# Altium integrated library Analog Devices Data Converters Analog-to-Digital Converters.IntLib: 2400 symbols (part 137 of 338)
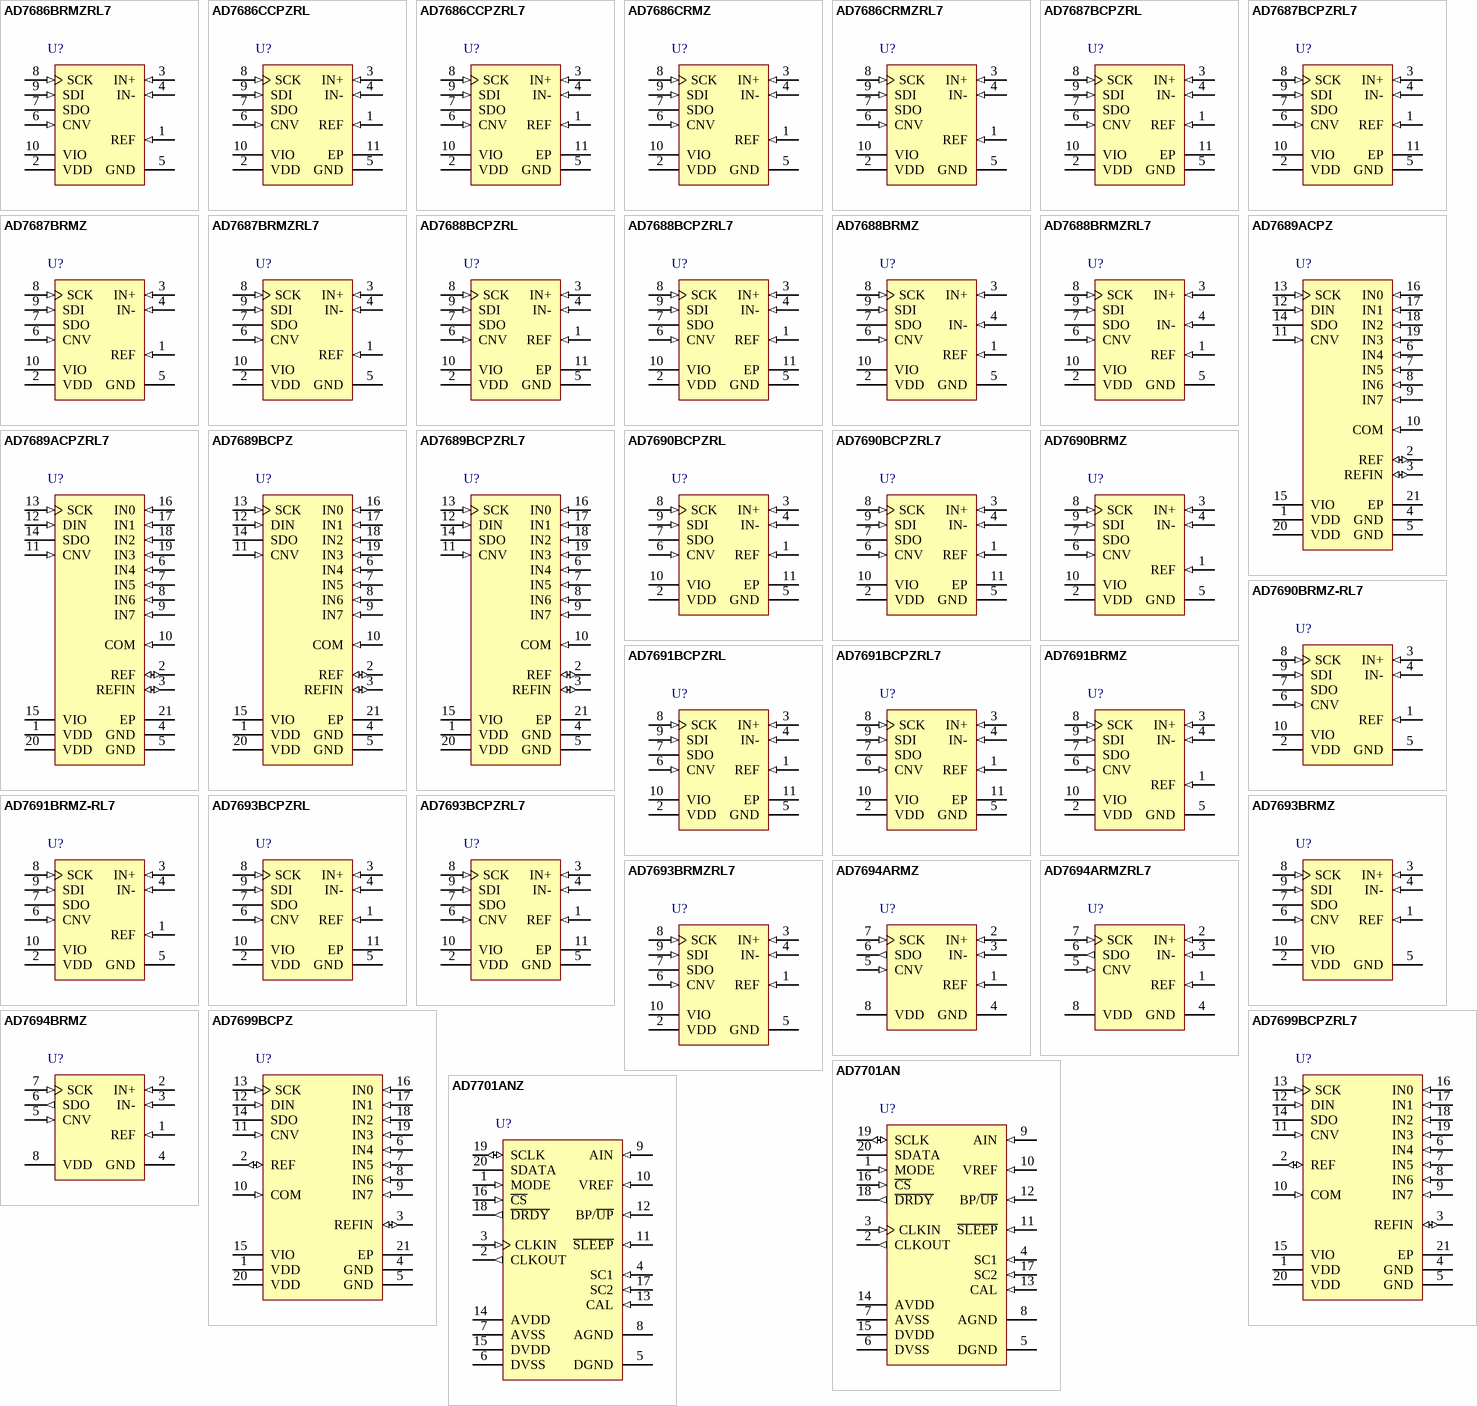
[diagram p234: symbols AD7686BRMZRL7 to AD7701ANZ]

## AD7693BCPZRL7
designator U?
Single 16-Bit PulSAR Analog-to-Digital Converter with Serial, SPI Interface, 500KSPS, -40 to +85 degC, CP-10-9, Pb-Free, Reel; Part Number: AD7693; Manufacturer: Analog Devices; Resolution (Bits): 16; Channels: 1; Throughput Rate (SPS): 500K; Interface: Ser, SPI; DatasheetVersion: Rev.A; PackageVersion: 02-27-2012-B; PackageReference: CP-10-9; PackageDescription: 10-Lead Lead Frame Chip Scale Package [LFCSP_WD] 3 x 3 mm Body, Very Very Thin, Dual Lead; RoHS: Y; Packing: Reel; Mounting Technology: Surface Mount; ComponentLink1Description: Manufacturer URL; ComponentLink1URL: http://www.analog.com/en/index.html; ComponentLink2Description: Datasheet; ComponentLink2URL: http://www.analog.com/static/imported-files/data_sheets/AD7693.pdf; ComponentLink3Description: Package Specification; ComponentLink3URL: http://www.analog.com/static/imported-files/packages/CP_10_9.pdf; ComponentLink4Description: Product URL; ComponentLink4URL: http://www.analog.com/en/analog-to-digital-converters/ad-converters/ad7693/products/product.html
footprint CP-10-9_N (SON, 10-Leads, Body 3x3mm, Pitch 0.5mm, Thermal Pad 2.35x1.6mm, IPC Medium Density)
footprint CP-10-9_L (SON, 10-Leads, Body 3x3mm, Pitch 0.5mm, Thermal Pad 2.35x1.6mm, IPC High Density)
footprint CP-10-9_M (SON, 10-Leads, Body 3x3mm, Pitch 0.5mm, Thermal Pad 2.35x1.6mm, IPC Low Density)
pins: 1 REF (in) "Reference Input Voltage. The REF range is from 0.5 V to VDD. It is referred to the GND pin. This pin should be decoupled closely to the pin with a 10 uF capacitor.", 2 VDD (power) "Power Supply.", 3 IN+ (in) "Differential Positive Analog Input.", 4 IN- (in) "Differential Negative Analog Input.", 5 GND (power) "Power Supply Ground.", 6 CNV (in) "Convert Input. This input has multiple functions. On its leading edge, it initiates the conversions and selects the interface mode of the part: chain or C\S\ mode. In chain mode, the data should be read when CNV is high. In (See Datasheet)", 7 SDO (hiz) "Serial Data Output. The conversion result is output on this pin. It is synchronized to SCK.", 8 SCK (in) "Serial Data Clock Input. When the part is selected, the conversion result is shifted out by this clock.", 9 SDI (in) "Serial Data Input. This input provides multiple features. It selects the interface mode of the ADC as follows: Chain mode is selected if SDI is low during the CNV rising edge. In this mode, SDI is used as a data input to (See Datasheet)", 10 VIO (power) "Input/Output Interface Digital Power. Nominally at the same supply as the host interface (1.8 V, 2.5 V, 3 V, or 5 V).", 11 EP (power) "Exposed Pad. The exposed pad is connected to GND. This connection is not required to meet the electrical performances. The exposed pad is only on the 10-Lead QFN (LFC\S\P)."

## AD7693BRMZ
designator U?
Single 16-Bit PulSAR Analog-to-Digital Converter with Serial, SPI Interface, 500KSPS, -40 to +85 degC, RM-10, Pb-Free, Tube; Part Number: AD7693; Manufacturer: Analog Devices; Resolution (Bits): 16; Channels: 1; Throughput Rate (SPS): 500K; Interface: Ser, SPI; DatasheetVersion: Rev.A; PackageVersion: May-2005; PackageReference: RM-10; PackageDescription: 10-Lead Mini Small Outline Package [MSOP]; RoHS: Y; Packing: Tube; Mounting Technology: Surface Mount; ComponentLink1Description: Manufacturer URL; ComponentLink1URL: http://www.analog.com/en/index.html; ComponentLink2Description: Datasheet; ComponentLink2URL: http://www.analog.com/static/imported-files/data_sheets/AD7693.pdf; ComponentLink3Description: Package Specification; ComponentLink3URL: http://www.analog.com/static/imported-files/packages/PKG_PDF/MSOP%28RM%29/RM_10.pdf; ComponentLink4Description: Product URL; ComponentLink4URL: http://www.analog.com/en/analog-to-digital-converters/ad-converters/ad7693/products/product.html
footprint RM-10_N (TSSOP, 10-Leads, Body 3x3mm, Pitch 0.5mm, IPC Medium Density)
footprint RM-10_L (TSSOP, 10-Leads, Body 3x3mm, Pitch 0.5mm, IPC High Density)
footprint RM-10_M (TSSOP, 10-Leads, Body 3x3mm, Pitch 0.5mm, IPC Low Density)
pins: 1 REF (in) "Reference Input Voltage. The REF range is from 0.5 V to VDD. It is referred to the GND pin. This pin should be decoupled closely to the pin with a 10 uF capacitor.", 2 VDD (power) "Power Supply.", 3 IN+ (in) "Differential Positive Analog Input.", 4 IN- (in) "Differential Negative Analog Input.", 5 GND (power) "Power Supply Ground.", 6 CNV (in) "Convert Input. This input has multiple functions. On its leading edge, it initiates the conversions and selects the interface mode of the part: chain or C\S\ mode. In chain mode, the data should be read when CNV is high. In (See Datasheet)", 7 SDO (hiz) "Serial Data Output. The conversion result is output on this pin. It is synchronized to SCK.", 8 SCK (in) "Serial Data Clock Input. When the part is selected, the conversion result is shifted out by this clock.", 9 SDI (in) "Serial Data Input. This input provides multiple features. It selects the interface mode of the ADC as follows: Chain mode is selected if SDI is low during the CNV rising edge. In this mode, SDI is used as a data input to (See Datasheet)", 10 VIO (power) "Input/Output Interface Digital Power. Nominally at the same supply as the host interface (1.8 V, 2.5 V, 3 V, or 5 V)."

## AD7693BRMZRL7
designator U?
Single 16-Bit PulSAR Analog-to-Digital Converter with Serial, SPI Interface, 500KSPS, -40 to +85 degC, RM-10, Pb-Free, Reel; Part Number: AD7693; Manufacturer: Analog Devices; Resolution (Bits): 16; Channels: 1; Throughput Rate (SPS): 500K; Interface: Ser, SPI; DatasheetVersion: Rev.A; PackageVersion: May-2005; PackageReference: RM-10; PackageDescription: 10-Lead Mini Small Outline Package [MSOP]; RoHS: Y; Packing: Reel; Mounting Technology: Surface Mount; ComponentLink1Description: Manufacturer URL; ComponentLink1URL: http://www.analog.com/en/index.html; ComponentLink2Description: Datasheet; ComponentLink2URL: http://www.analog.com/static/imported-files/data_sheets/AD7693.pdf; ComponentLink3Description: Package Specification; ComponentLink3URL: http://www.analog.com/static/imported-files/packages/PKG_PDF/MSOP%28RM%29/RM_10.pdf; ComponentLink4Description: Product URL; ComponentLink4URL: http://www.analog.com/en/analog-to-digital-converters/ad-converters/ad7693/products/product.html
footprint RM-10_N (TSSOP, 10-Leads, Body 3x3mm, Pitch 0.5mm, IPC Medium Density)
footprint RM-10_L (TSSOP, 10-Leads, Body 3x3mm, Pitch 0.5mm, IPC High Density)
footprint RM-10_M (TSSOP, 10-Leads, Body 3x3mm, Pitch 0.5mm, IPC Low Density)
pins: 1 REF (in) "Reference Input Voltage. The REF range is from 0.5 V to VDD. It is referred to the GND pin. This pin should be decoupled closely to the pin with a 10 uF capacitor.", 2 VDD (power) "Power Supply.", 3 IN+ (in) "Differential Positive Analog Input.", 4 IN- (in) "Differential Negative Analog Input.", 5 GND (power) "Power Supply Ground.", 6 CNV (in) "Convert Input. This input has multiple functions. On its leading edge, it initiates the conversions and selects the interface mode of the part: chain or C\S\ mode. In chain mode, the data should be read when CNV is high. In (See Datasheet)", 7 SDO (hiz) "Serial Data Output. The conversion result is output on this pin. It is synchronized to SCK.", 8 SCK (in) "Serial Data Clock Input. When the part is selected, the conversion result is shifted out by this clock.", 9 SDI (in) "Serial Data Input. This input provides multiple features. It selects the interface mode of the ADC as follows: Chain mode is selected if SDI is low during the CNV rising edge. In this mode, SDI is used as a data input to (See Datasheet)", 10 VIO (power) "Input/Output Interface Digital Power. Nominally at the same supply as the host interface (1.8 V, 2.5 V, 3 V, or 5 V)."

## AD7694ARMZ
designator U?
Single 16-Bit PulSAR Analog-to-Digital Converter with Serial, SPI Interface, 250KSPS, -40 to +85 degC, RM-8, Pb-Free, Tube; Part Number: AD7694; Manufacturer: Analog Devices; Resolution (Bits): 16; Channels: 1; Throughput Rate (SPS): 250K; Interface: Ser, SPI; DatasheetVersion: Rev.A; PackageVersion: Aug-2005; PackageReference: RM-8; PackageDescription: 8-Lead Mini Small Outline Package [MSOP]; RoHS: Y; Packing: Tube; Mounting Technology: Surface Mount; Code_JEDEC: MO-187-AA; ComponentLink1Description: Manufacturer URL; ComponentLink1URL: http://www.analog.com/en/index.html; ComponentLink2Description: Datasheet; ComponentLink2URL: http://www.analog.com/static/imported-files/data_sheets/AD7694.pdf; ComponentLink3Description: Package Specification; ComponentLink3URL: http://www.analog.com/static/imported-files/packages/PKG_PDF/MSOP%28RM%29/RM_8.pdf; ComponentLink4Description: Product URL; ComponentLink4URL: http://www.analog.com/en/analog-to-digital-converters/ad-converters/ad7694/products/product.html
footprint RM-8_N (TSOP, 8-Leads, Body 3x3mm, Pitch 0.65mm, IPC Medium Density)
footprint RM-8_L (TSOP, 8-Leads, Body 3x3mm, Pitch 0.65mm, IPC High Density)
footprint RM-8_M (TSOP, 8-Leads, Body 3x3mm, Pitch 0.65mm, IPC Low Density)
pins: 1 REF (in) "Reference Input Voltage. The REF range is from 1 V to VDD. It is referred to the GND pin. This pin should be decoupled closely to the pin with a ceramic capacitor of a few uF.", 2 IN+ (in) "Analog Input. It is referred to in IN-. The voltage range, that is, the difference between IN+ and IN-, which is 0 V to VREF.", 3 IN- (in) "Analog Input Ground Sense. To be connected to the analog ground plane or to a remote sense ground.", 4 GND (power) "Power Supply Ground.", 5 CNV (in) "Convert Input. On its leading edge, it initiates the conversions. It enables the SDO pin when low.", 6 SDO (out) "Serial Data Output. The conversion result is output on this pin. It is synchronized to SCK.", 7 SCK (in) "Serial Data Clock Input. When CNV is low, the conversion result is shifted out by this clock.", 8 VDD (power) "Power Supply."

## AD7694ARMZRL7
designator U?
Single 16-Bit PulSAR Analog-to-Digital Converter with Serial, SPI Interface, 250KSPS, -40 to +85 degC, RM-8, Pb-Free, Reel; Part Number: AD7694; Manufacturer: Analog Devices; Resolution (Bits): 16; Channels: 1; Throughput Rate (SPS): 250K; Interface: Ser, SPI; DatasheetVersion: Rev.A; PackageVersion: Aug-2005; PackageReference: RM-8; PackageDescription: 8-Lead Mini Small Outline Package [MSOP]; RoHS: Y; Packing: Reel; Mounting Technology: Surface Mount; Code_JEDEC: MO-187-AA; ComponentLink1Description: Manufacturer URL; ComponentLink1URL: http://www.analog.com/en/index.html; ComponentLink2Description: Datasheet; ComponentLink2URL: http://www.analog.com/static/imported-files/data_sheets/AD7694.pdf; ComponentLink3Description: Package Specification; ComponentLink3URL: http://www.analog.com/static/imported-files/packages/PKG_PDF/MSOP%28RM%29/RM_8.pdf; ComponentLink4Description: Product URL; ComponentLink4URL: http://www.analog.com/en/analog-to-digital-converters/ad-converters/ad7694/products/product.html
footprint RM-8_N (TSOP, 8-Leads, Body 3x3mm, Pitch 0.65mm, IPC Medium Density)
footprint RM-8_L (TSOP, 8-Leads, Body 3x3mm, Pitch 0.65mm, IPC High Density)
footprint RM-8_M (TSOP, 8-Leads, Body 3x3mm, Pitch 0.65mm, IPC Low Density)
pins: 1 REF (in) "Reference Input Voltage. The REF range is from 1 V to VDD. It is referred to the GND pin. This pin should be decoupled closely to the pin with a ceramic capacitor of a few uF.", 2 IN+ (in) "Analog Input. It is referred to in IN-. The voltage range, that is, the difference between IN+ and IN-, which is 0 V to VREF.", 3 IN- (in) "Analog Input Ground Sense. To be connected to the analog ground plane or to a remote sense ground.", 4 GND (power) "Power Supply Ground.", 5 CNV (in) "Convert Input. On its leading edge, it initiates the conversions. It enables the SDO pin when low.", 6 SDO (out) "Serial Data Output. The conversion result is output on this pin. It is synchronized to SCK.", 7 SCK (in) "Serial Data Clock Input. When CNV is low, the conversion result is shifted out by this clock.", 8 VDD (power) "Power Supply."

## AD7694BRMZ
designator U?
Single 16-Bit PulSAR Analog-to-Digital Converter with Serial, SPI Interface, 250KSPS, -40 to +85 degC, RM-8, Pb-Free, Tube; Part Number: AD7694; Manufacturer: Analog Devices; Resolution (Bits): 16; Channels: 1; Throughput Rate (SPS): 250K; Interface: Ser, SPI; DatasheetVersion: Rev.A; PackageVersion: Aug-2005; PackageReference: RM-8; PackageDescription: 8-Lead Mini Small Outline Package [MSOP]; RoHS: Y; Packing: Tube; Mounting Technology: Surface Mount; Code_JEDEC: MO-187-AA; ComponentLink1Description: Manufacturer URL; ComponentLink1URL: http://www.analog.com/en/index.html; ComponentLink2Description: Datasheet; ComponentLink2URL: http://www.analog.com/static/imported-files/data_sheets/AD7694.pdf; ComponentLink3Description: Package Specification; ComponentLink3URL: http://www.analog.com/static/imported-files/packages/PKG_PDF/MSOP%28RM%29/RM_8.pdf; ComponentLink4Description: Product URL; ComponentLink4URL: http://www.analog.com/en/analog-to-digital-converters/ad-converters/ad7694/products/product.html
footprint RM-8_N (TSOP, 8-Leads, Body 3x3mm, Pitch 0.65mm, IPC Medium Density)
footprint RM-8_L (TSOP, 8-Leads, Body 3x3mm, Pitch 0.65mm, IPC High Density)
footprint RM-8_M (TSOP, 8-Leads, Body 3x3mm, Pitch 0.65mm, IPC Low Density)
pins: 1 REF (in) "Reference Input Voltage. The REF range is from 1 V to VDD. It is referred to the GND pin. This pin should be decoupled closely to the pin with a ceramic capacitor of a few uF.", 2 IN+ (in) "Analog Input. It is referred to in IN-. The voltage range, that is, the difference between IN+ and IN-, which is 0 V to VREF.", 3 IN- (in) "Analog Input Ground Sense. To be connected to the analog ground plane or to a remote sense ground.", 4 GND (power) "Power Supply Ground.", 5 CNV (in) "Convert Input. On its leading edge, it initiates the conversions. It enables the SDO pin when low.", 6 SDO (out) "Serial Data Output. The conversion result is output on this pin. It is synchronized to SCK.", 7 SCK (in) "Serial Data Clock Input. When CNV is low, the conversion result is shifted out by this clock.", 8 VDD (power) "Power Supply."

## AD7699BCPZ
designator U?
Octal 16-Bit PulSAR Analog-to-Digital Converter with Serial, SPI Interface, 500KSPS, -40 to +85 degC, CP-20-4, Pb-Free, Tray; Part Number: AD7699; Manufacturer: Analog Devices; Resolution (Bits): 16; Channels: 8; Throughput Rate (SPS): 500K; Interface: Ser, SPI; DatasheetVersion: Rev.B; PackageVersion: 012508-B; PackageReference: CP-20-4; PackageDescription: 20-Lead Lead Frame Chip Scale Package [LFCSP_VQ] 4 x 4 mm Body, Very Thin Quad; RoHS: Y; Packing: Tray; Mounting Technology: Surface Mount; Code_JEDEC: MO-220-VGGD-1; ComponentLink1Description: Manufacturer URL; ComponentLink1URL: http://www.analog.com/en/index.html; ComponentLink2Description: Datasheet; ComponentLink2URL: http://www.analog.com/static/imported-files/data_sheets/AD7699.pdf; ComponentLink3Description: Package Specification; ComponentLink3URL: http://www.analog.com/static/imported-files/packages/PKG_PDF/LFCSP(CP)/CP_20_4.pdf; ComponentLink4Description: Product URL; ComponentLink4URL: http://www.analog.com/en/analog-to-digital-converters/ad-converters/ad7699/products/product.html
footprint CP-20-4_N (QFN, 20-Leads, Body 4x4mm, Pitch 0.5mm, Thermal Pad 2.5x2.5mm, IPC Medium Density)
footprint CP-20-4_L (QFN, 20-Leads, Body 4x4mm, Pitch 0.5mm, Thermal Pad 2.5x2.5mm, IPC High Density)
footprint CP-20-4_M (QFN, 20-Leads, Body 4x4mm, Pitch 0.5mm, Thermal Pad 2.5x2.5mm, IPC Low Density)
pins: 1 VDD (power) "Power Supply. Nominally 4.5 to 5.5 V and should be decoupled with 10 uF and 100 nF capacitors.", 2 REF (io) "Reference Input/Output. See the Voltage Reference Output/Input section. When the internal reference is enabled, this pin produces 4.096 V. When the internal reference is disabled and the buffer is enabled, REF produces a (See Datasheet)", 3 REFIN (io) "Internal Reference Output/Reference Buffer Input. See the Voltage Reference Output/Input section. When using the internal reference, the internal unbuffered reference voltage is present and needs decoupling with a 0.1 uF (See Datasheet)", 4 GND (power) "Power Supply Ground.", 5 GND (power) "Power Supply Ground.", 6 IN4 (in) "Analog Input Channel 4.", 7 IN5 (in) "Analog Input Channel 5.", 8 IN6 (in) "Analog Input Channel 6.", 9 IN7 (in) "Analog Input Channel 7.", 10 COM (in) "Common Channel Input. All input channels, IN[7:0], can be referenced to a common-mode point of 0 V or VREF/2 V.", 11 CNV (in) "Conversion Input. On the rising edge, CNV initiates the conversion. During conversion, if CNV is held high, the busy indictor is enabled.", 12 DIN (in) "Data Input. This input is used for writing to the 14-bit configuration register. The configuration register can be written to during and after conversion.", 13 SCK (in) "Serial Data Clock Input. This input is used to clock out the data on SDO and clock in data on DIN in an MSB first fashion.", 14 SDO (hiz) "Serial Data Output. The conversion result is output on this pin and synchronized to SCK. In unipolar modes, conversion results are straight binary; in bipolar modes, conversion results are twos complement.", 15 VIO (power) "Input/Output Interface Digital Power. Nominally at the same supply as the host interface (1.8 V, 2.5 V, 3 V, or 5 V).", 16 IN0 (in) "Analog Input Channel 0", 17 IN1 (in) "Analog Input Channel 1", 18 IN2 (in) "Analog Input Channel 2", 19 IN3 (in) "Analog Input Channel 3", 20 VDD (power) "Power Supply. Nominally 4.5 to 5.5 V and should be decoupled with 10 uF and 100 nF capacitors.", 21 EP (power) "The exposed paddle is not connected internally. For increased reliability of the solder joints, it is recommended that the pad be soldered to the GND plane."

## AD7699BCPZRL7
designator U?
Octal 16-Bit PulSAR Analog-to-Digital Converter with Serial, SPI Interface, 500KSPS, -40 to +85 degC, CP-20-4, Pb-Free, Reel; Part Number: AD7699; Manufacturer: Analog Devices; Resolution (Bits): 16; Channels: 8; Throughput Rate (SPS): 500K; Interface: Ser, SPI; DatasheetVersion: Rev.B; PackageVersion: 012508-B; PackageReference: CP-20-4; PackageDescription: 20-Lead Lead Frame Chip Scale Package [LFCSP_VQ] 4 x 4 mm Body, Very Thin Quad; RoHS: Y; Packing: Reel; Mounting Technology: Surface Mount; Code_JEDEC: MO-220-VGGD-1; ComponentLink1Description: Manufacturer URL; ComponentLink1URL: http://www.analog.com/en/index.html; ComponentLink2Description: Datasheet; ComponentLink2URL: http://www.analog.com/static/imported-files/data_sheets/AD7699.pdf; ComponentLink3Description: Package Specification; ComponentLink3URL: http://www.analog.com/static/imported-files/packages/PKG_PDF/LFCSP(CP)/CP_20_4.pdf; ComponentLink4Description: Product URL; ComponentLink4URL: http://www.analog.com/en/analog-to-digital-converters/ad-converters/ad7699/products/product.html
footprint CP-20-4_N (QFN, 20-Leads, Body 4x4mm, Pitch 0.5mm, Thermal Pad 2.5x2.5mm, IPC Medium Density)
footprint CP-20-4_L (QFN, 20-Leads, Body 4x4mm, Pitch 0.5mm, Thermal Pad 2.5x2.5mm, IPC High Density)
footprint CP-20-4_M (QFN, 20-Leads, Body 4x4mm, Pitch 0.5mm, Thermal Pad 2.5x2.5mm, IPC Low Density)
pins: 1 VDD (power) "Power Supply. Nominally 4.5 to 5.5 V and should be decoupled with 10 uF and 100 nF capacitors.", 2 REF (io) "Reference Input/Output. See the Voltage Reference Output/Input section. When the internal reference is enabled, this pin produces 4.096 V. When the internal reference is disabled and the buffer is enabled, REF produces a (See Datasheet)", 3 REFIN (io) "Internal Reference Output/Reference Buffer Input. See the Voltage Reference Output/Input section. When using the internal reference, the internal unbuffered reference voltage is present and needs decoupling with a 0.1 uF (See Datasheet)", 4 GND (power) "Power Supply Ground.", 5 GND (power) "Power Supply Ground.", 6 IN4 (in) "Analog Input Channel 4.", 7 IN5 (in) "Analog Input Channel 5.", 8 IN6 (in) "Analog Input Channel 6.", 9 IN7 (in) "Analog Input Channel 7.", 10 COM (in) "Common Channel Input. All input channels, IN[7:0], can be referenced to a common-mode point of 0 V or VREF/2 V.", 11 CNV (in) "Conversion Input. On the rising edge, CNV initiates the conversion. During conversion, if CNV is held high, the busy indictor is enabled.", 12 DIN (in) "Data Input. This input is used for writing to the 14-bit configuration register. The configuration register can be written to during and after conversion.", 13 SCK (in) "Serial Data Clock Input. This input is used to clock out the data on SDO and clock in data on DIN in an MSB first fashion.", 14 SDO (hiz) "Serial Data Output. The conversion result is output on this pin and synchronized to SCK. In unipolar modes, conversion results are straight binary; in bipolar modes, conversion results are twos complement.", 15 VIO (power) "Input/Output Interface Digital Power. Nominally at the same supply as the host interface (1.8 V, 2.5 V, 3 V, or 5 V).", 16 IN0 (in) "Analog Input Channel 0", 17 IN1 (in) "Analog Input Channel 1", 18 IN2 (in) "Analog Input Channel 2", 19 IN3 (in) "Analog Input Channel 3", 20 VDD (power) "Power Supply. Nominally 4.5 to 5.5 V and should be decoupled with 10 uF and 100 nF capacitors.", 21 EP (power) "The exposed paddle is not connected internally. For increased reliability of the solder joints, it is recommended that the pad be soldered to the GND plane."

## AD7701AN
designator U?
Single 16-Bit Analog-to-Digital Converter with Serial Interface, LC2MOS, 4KSPS, -40 to +85 degC, N-20, Tube; Part Number: AD7701; Manufacturer: Analog Devices; Resolution (Bits): 16; Channels: 1; Throughput Rate (SPS): 4K; Interface: Ser; DatasheetVersion: Rev.E; PackageVersion: 070706-A; PackageReference: N-20; PackageDescription: 20-Lead Plastic Dual In-Line Package [PDIP] Narrow Body; RoHS: N; Packing: Tube; Mounting Technology: Through-hole; Code_JEDEC: MS-001; ComponentLink1Description: Manufacturer URL; ComponentLink1URL: http://www.analog.com/en/index.html; ComponentLink2Description: Datasheet; ComponentLink2URL: http://www.analog.com/static/imported-files/data_sheets/AD7701.pdf; ComponentLink3Description: Package Specification; ComponentLink3URL: http://www.analog.com/static/imported-files/packages/50601349676519N_20.pdf; ComponentLink4Description: Product URL; ComponentLink4URL: http://www.analog.com/en/analog-to-digital-converters/ad-converters/ad7701/products/product.html
footprint N-20 (DIP, 20-Leads, Row Spacing 7.62mm, Pitch 2.54mm, Body 25.9x6.6mm)
pins: 1 MODE (in) "Selects the Serial Interface Mode. If MODE is tied to -5 V, the AD7701 will operate in the Asynchronous Communications (AC) mode. The SCLK pin is configured as an input, and data is transmitted in two bytes, each with one (See Datasheet)", 2 CLKOUT (out) "Clock Output to Generate an Internal Master Clock by Connecting a Crystal between CLKOUT and CLKIN. If an external clock is used, CLKOUT is not connected.", 3 CLKIN (in) "Clock Input for External Clock.", 4 SC1 (in) "System Calibration Pins. The state of these pins, when CAL is taken high, determines the type of calibration performed.", 5 DGND (power) "Digital Ground. Ground reference for all digital signals.", 6 DVSS (power) "Digital Negative Supply, -5 V Nominal.", 7 AVSS (power) "Analog Negative Supply, -5 V Nominal.", 8 AGND (power) "Analog Ground. Ground reference for all analog signals.", 9 AIN (in) "Analog Input.", 10 VREF (in) "Voltage Reference Input, 2.5 V Nominal. This determines the value of positive full scale in the Unipolar mode and of both positive and negative full scale in Bipolar mode.", 11 ~{SLEEP} (in) "Sleep Mode Pin. When this pin is taken low, the AD7701 goes into a low power mode with typically 10 uW power consumption.", 12 BP/~{UP} (in) "Bipolar/Unipolar Mode Pin. When this pin is low, the AD7701 is configured for a unipolar input range going from AGND to VREF. When Pin 12 is high, the AD7701 is configured for a bipolar input range, +/-VREF.", 13 CAL (in) "Calibration Mode Pin. When CAL is taken high for more than four cycles, the AD7701 is reset and performs a calibration cycle when CAL is brought low again. The CAL pin can also be used as a strobe to synchronize the (See Datasheet)", 14 AVDD (power) "Analog Positive Supply, +5 V Nominal.", 15 DVDD (power) "Digital Positive Supply, +5 V Nominal.", 16 ~{CS} (in) "Chip Select Input. When C\S\ is brought low, the AD7701 will begin to transmit serial data in a format determined by the state of the MODE pin.", 17 SC2 (in) "System Calibration Pins. The state of these pins, when CAL is taken high, determines the type of calibration performed.", 18 ~{DRDY} (out) "Data Ready Output. D\R\D\Y\ is low when valid data is available in the output register. It goes high after transmission of a word is completed. It also goes high for four clock cycles when a new data-word is being loaded (See Datasheet)", 19 SCLK (io) "Serial Clock Input/Output. The SCLK pin is configured as an input or output, dependent on the type of serial data transmission that has been selected by the MODE pin.When configured as an output in the Synchronous Self (See Datasheet)", 20 SDATA (hiz) "Serial Data Output. The AD7701's output data is available at this pin as a 16-bit serial word. The transmission format is determined by the state of the MODE pin."

## AD7701ANZ
designator U?
Single 16-Bit Analog-to-Digital Converter with Serial Interface, LC2MOS, 4KSPS, -40 to +85 degC, N-20, Pb-Free, Tube; Part Number: AD7701; Manufacturer: Analog Devices; Resolution (Bits): 16; Channels: 1; Throughput Rate (SPS): 4K; Interface: Ser; DatasheetVersion: Rev.E; PackageVersion: 070706-A; PackageReference: N-20; PackageDescription: 20-Lead Plastic Dual In-Line Package [PDIP] Narrow Body; RoHS: Y; Packing: Tube; Mounting Technology: Through-hole; Code_JEDEC: MS-001; ComponentLink1Description: Manufacturer URL; ComponentLink1URL: http://www.analog.com/en/index.html; ComponentLink2Description: Datasheet; ComponentLink2URL: http://www.analog.com/static/imported-files/data_sheets/AD7701.pdf; ComponentLink3Description: Package Specification; ComponentLink3URL: http://www.analog.com/static/imported-files/packages/50601349676519N_20.pdf; ComponentLink4Description: Product URL; ComponentLink4URL: http://www.analog.com/en/analog-to-digital-converters/ad-converters/ad7701/products/product.html
footprint N-20 (DIP, 20-Leads, Row Spacing 7.62mm, Pitch 2.54mm, Body 25.9x6.6mm)
pins: 1 MODE (in) "Selects the Serial Interface Mode. If MODE is tied to -5 V, the AD7701 will operate in the Asynchronous Communications (AC) mode. The SCLK pin is configured as an input, and data is transmitted in two bytes, each with one (See Datasheet)", 2 CLKOUT (out) "Clock Output to Generate an Internal Master Clock by Connecting a Crystal between CLKOUT and CLKIN. If an external clock is used, CLKOUT is not connected.", 3 CLKIN (in) "Clock Input for External Clock.", 4 SC1 (in) "System Calibration Pins. The state of these pins, when CAL is taken high, determines the type of calibration performed.", 5 DGND (power) "Digital Ground. Ground reference for all digital signals.", 6 DVSS (power) "Digital Negative Supply, -5 V Nominal.", 7 AVSS (power) "Analog Negative Supply, -5 V Nominal.", 8 AGND (power) "Analog Ground. Ground reference for all analog signals.", 9 AIN (in) "Analog Input.", 10 VREF (in) "Voltage Reference Input, 2.5 V Nominal. This determines the value of positive full scale in the Unipolar mode and of both positive and negative full scale in Bipolar mode.", 11 ~{SLEEP} (in) "Sleep Mode Pin. When this pin is taken low, the AD7701 goes into a low power mode with typically 10 uW power consumption.", 12 BP/~{UP} (in) "Bipolar/Unipolar Mode Pin. When this pin is low, the AD7701 is configured for a unipolar input range going from AGND to VREF. When Pin 12 is high, the AD7701 is configured for a bipolar input range, +/-VREF.", 13 CAL (in) "Calibration Mode Pin. When CAL is taken high for more than four cycles, the AD7701 is reset and performs a calibration cycle when CAL is brought low again. The CAL pin can also be used as a strobe to synchronize the (See Datasheet)", 14 AVDD (power) "Analog Positive Supply, +5 V Nominal.", 15 DVDD (power) "Digital Positive Supply, +5 V Nominal.", 16 ~{CS} (in) "Chip Select Input. When C\S\ is brought low, the AD7701 will begin to transmit serial data in a format determined by the state of the MODE pin.", 17 SC2 (in) "System Calibration Pins. The state of these pins, when CAL is taken high, determines the type of calibration performed.", 18 ~{DRDY} (out) "Data Ready Output. D\R\D\Y\ is low when valid data is available in the output register. It goes high after transmission of a word is completed. It also goes high for four clock cycles when a new data-word is being loaded (See Datasheet)", 19 SCLK (io) "Serial Clock Input/Output. The SCLK pin is configured as an input or output, dependent on the type of serial data transmission that has been selected by the MODE pin.When configured as an output in the Synchronous Self (See Datasheet)", 20 SDATA (hiz) "Serial Data Output. The AD7701's output data is available at this pin as a 16-bit serial word. The transmission format is determined by the state of the MODE pin."

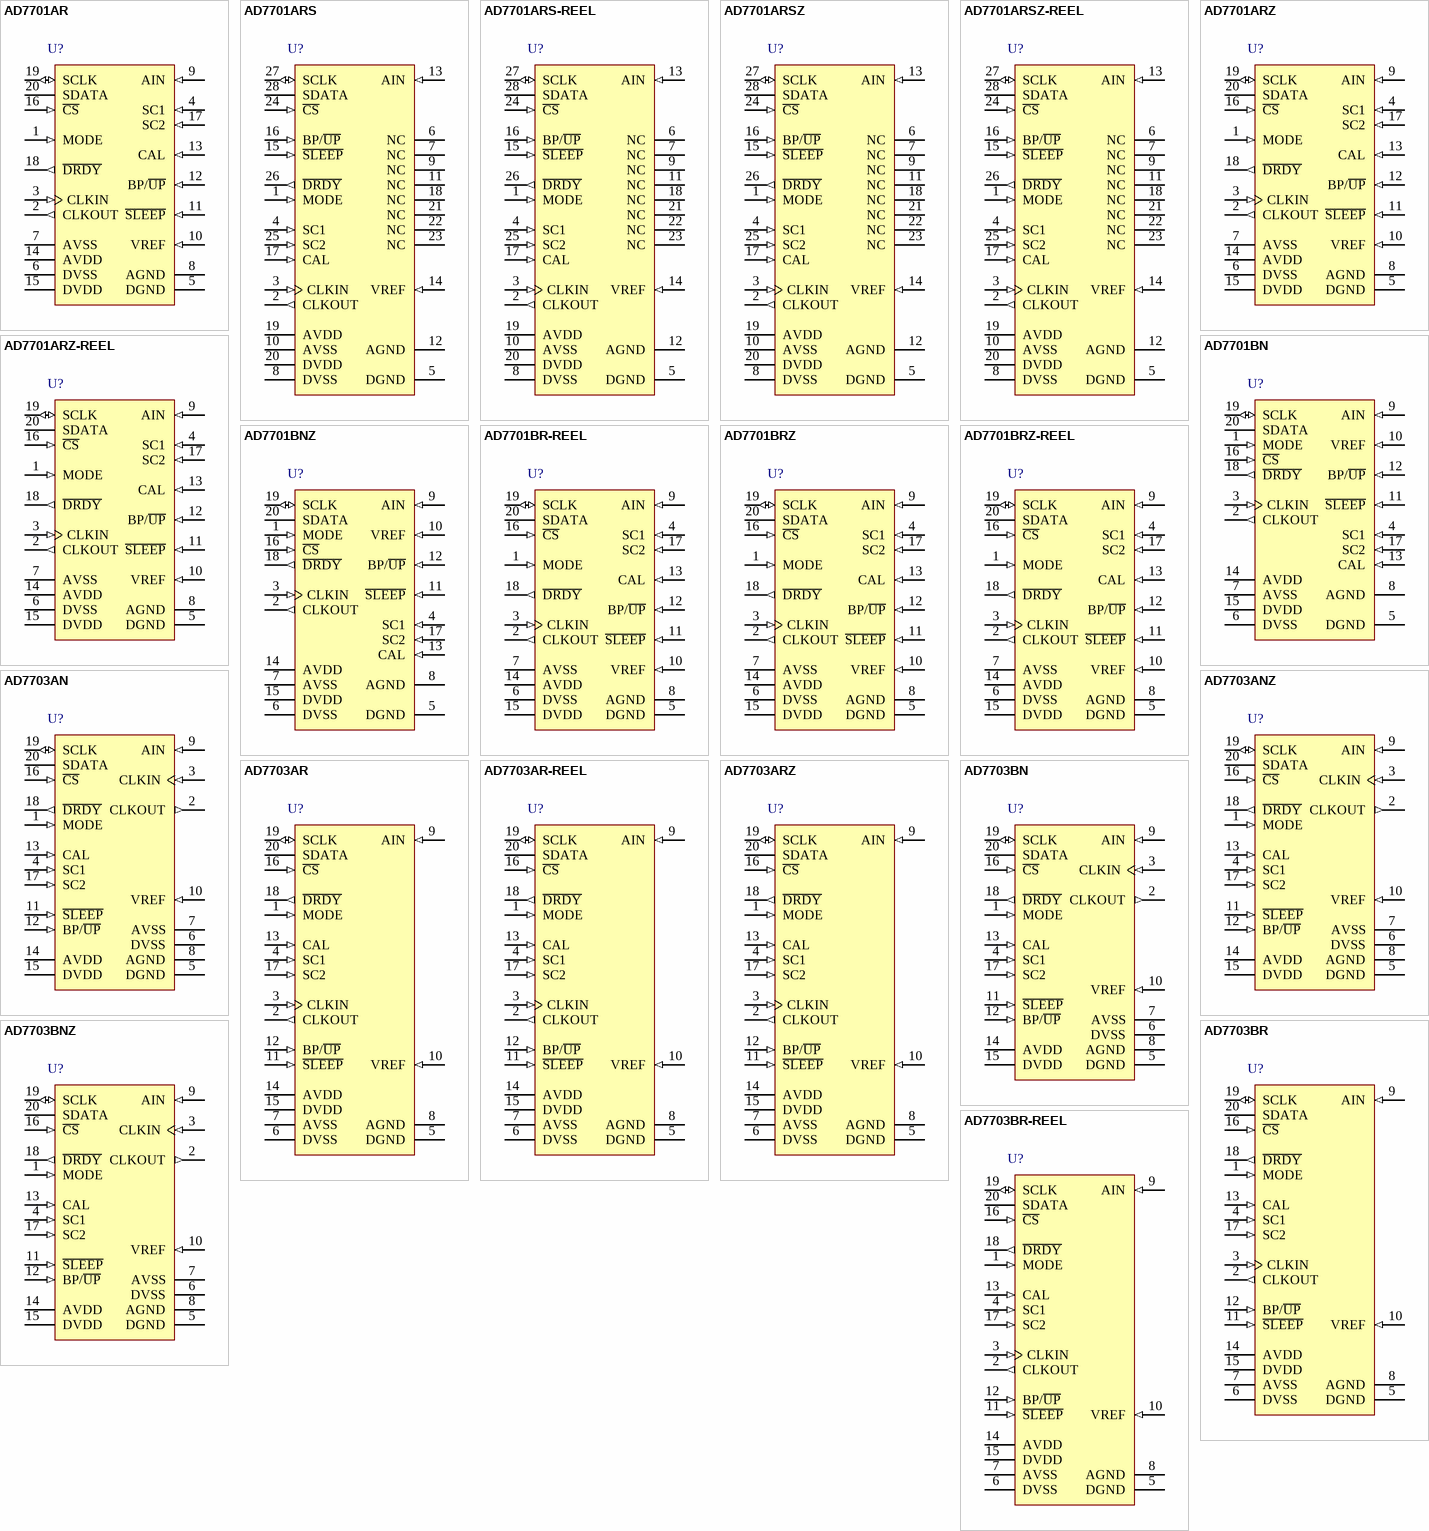
[diagram p46: symbols AD7701AR to AD7703BR-REEL]

## AD7701AR
designator U?
Single 16-Bit Analog-to-Digital Converter with Serial Interface, LC2MOS, 4KSPS, -40 to +85 degC, RW-20, Tube; Part Number: AD7701; Manufacturer: Analog Devices; Resolution (Bits): 16; Channels: 1; Throughput Rate (SPS): 4K; Interface: Ser; DatasheetVersion: Rev.E; PackageVersion: 060706-A; PackageReference: RW-20; PackageDescription: 20-Lead Standard Small Outline Package [SOIC_W] Wide Body; RoHS: N; Packing: Tube; Mounting Technology: Surface Mount; Code_JEDEC: MS-013-AC; ComponentLink1Description: Manufacturer URL; ComponentLink1URL: http://www.analog.com/en/index.html; ComponentLink2Description: Datasheet; ComponentLink2URL: http://www.analog.com/static/imported-files/data_sheets/AD7701.pdf; ComponentLink3Description: Package Specification; ComponentLink3URL: http://www.analog.com/static/imported-files/packages/233848RW_20.pdf; ComponentLink4Description: Product URL; ComponentLink4URL: http://www.analog.com/en/analog-to-digital-converters/ad-converters/ad7701/products/product.html
footprint RW-20_N (SOIC, 20-Leads, Body 12.8x7.5mm, Pitch 1.27mm, IPC Medium Density)
footprint RW-20_L (SOIC, 20-Leads, Body 12.8x7.5mm, Pitch 1.27mm, IPC High Density)
footprint RW-20_M (SOIC, 20-Leads, Body 12.8x7.5mm, Pitch 1.27mm, IPC Low Density)
pins: 1 MODE (in) "Selects the Serial Interface Mode. If MODE is tied to -5 V, the AD7701 will operate in the Asynchronous Communications (AC) mode. The SCLK pin is configured as an input, and data is transmitted in two bytes, each with one (See Datasheet)", 2 CLKOUT (out) "Clock Output to Generate an Internal Master Clock by Connecting a Crystal between CLKOUT and CLKIN. If an external clock is used, CLKOUT is not connected.", 3 CLKIN (in) "Clock Input for External Clock.", 4 SC1 (in) "System Calibration Pins. The state of these pins, when CAL is taken high, determines the type of calibration performed.", 5 DGND (power) "Digital Ground. Ground reference for all digital signals.", 6 DVSS (power) "Digital Negative Supply, -5 V Nominal.", 7 AVSS (power) "Analog Negative Supply, -5 V Nominal.", 8 AGND (power) "Analog Ground. Ground reference for all analog signals.", 9 AIN (in) "Analog Input.", 10 VREF (in) "Voltage Reference Input, 2.5 V Nominal. This determines the value of positive full scale in the Unipolar mode and of both positive and negative full scale in Bipolar mode.", 11 ~{SLEEP} (in) "Sleep Mode Pin. When this pin is taken low, the AD7701 goes into a low power mode with typically 10 µW power consumption.", 12 BP/~{UP} (in) "Bipolar/Unipolar Mode Pin. When this pin is low, the AD7701 is configured for a unipolar input range going from AGND to VREF. When Pin 12 is high, the AD7701 is configured for a bipolar input range, +/-VREF.", 13 CAL (in) "Calibration Mode Pin. When CAL is taken high for more than four cycles, the AD7701 is reset and performs a calibration cycle when CAL is brought low again. The CAL pin can also be used as a strobe to synchronize the (See Datasheet)", 14 AVDD (power) "Analog Positive Supply, +5 V Nominal.", 15 DVDD (power) "Digital Positive Supply, +5 V Nominal.", 16 ~{CS} (in) "Chip Select Input. When C\S\ is brought low, the AD7701 will begin to transmit serial data in a format determined by the state of the MODE pin.", 17 SC2 (in) "System Calibration Pins. The state of these pins, when CAL is taken high, determines the type of calibration performed.", 18 ~{DRDY} (out) "Data Ready Output. D\R\D\Y\ is low when valid data is available in the output register. It goes high after transmission of a word is completed. It also goes high for four clock cycles when a new data-word is being loaded (See Datasheet)", 19 SCLK (io) "Serial Clock Input/Output. The SCLK pin is configured as an input or output, dependent on the type of serial data transmission that has been selected by the MODE pin.When configured as an output in the Synchronous (See Datasheet)", 20 SDATA (hiz) "Serial Data Output. The AD7701's output data is available at this pin as a 16-bit serial word. The transmission format is determined by the state of the MODE pin."

## AD7701ARS
designator U?
Single 16-Bit Analog-to-Digital Converter with Serial Interface, LC2MOS, 4KSPS, -40 to +85 degC, RS-28, Tube; Part Number: AD7701; Manufacturer: Analog Devices; Resolution (Bits): 16; Channels: 1; Throughput Rate (SPS): 4K; Interface: Ser; DatasheetVersion: Rev.E; PackageVersion: 060106-A; PackageReference: RS-28; PackageDescription: 28-Lead Shrink Small Outline Package [SSOP]; RoHS: N; Packing: Tube; Mounting Technology: Surface Mount; Code_JEDEC: MO-150-AH; ComponentLink1Description: Manufacturer URL; ComponentLink1URL: http://www.analog.com/en/index.html; ComponentLink2Description: Datasheet; ComponentLink2URL: http://www.analog.com/static/imported-files/data_sheets/AD7701.pdf; ComponentLink3Description: Package Specification; ComponentLink3URL: http://www.analog.com/static/imported-files/packages/32122249223724RS_28.pdf; ComponentLink4Description: Product URL; ComponentLink4URL: http://www.analog.com/en/analog-to-digital-converters/ad-converters/ad7701/products/product.html
footprint RS-28_N (SOP, 28-Leads, Body 10.2x5.3mm, Pitch 0.65mm, IPC Medium Density)
footprint RS-28_L (SOP, 28-Leads, Body 10.2x5.3mm, Pitch 0.65mm, IPC High Density)
footprint RS-28_M (SOP, 28-Leads, Body 10.2x5.3mm, Pitch 0.65mm, IPC Low Density)
pins: 1 MODE (in) "Selects the Serial Interface Mode. If MODE is tied to -5 V, the AD7701 will operate in the Asynchronous Communications (AC) mode. The SCLK pin is configured as an input, and data is transmitted in two bytes, each with one (See Datasheet)", 2 CLKOUT (out) "Clock Output to Generate an Internal Master Clock by Connecting a Crystal between CLKOUT and CLKIN. If an external clock is used, CLKOUT is not connected.", 3 CLKIN (in) "Clock Input for External Clock.", 4 SC1 (in) "System Calibration Pins. The state of these pins, when CAL is taken high, determines the type of calibration performed.", 5 DGND (power) "Digital Ground. Ground reference for all digital signals.", 6 NC "No Connect.", 7 NC "No Connect.", 8 DVSS (power) "Digital Negative Supply, -5 V Nominal.", 9 NC "No Connect.", 10 AVSS (power) "Analog Negative Supply, -5 V Nominal.", 11 NC "No Connect.", 12 AGND (power) "Analog Ground. Ground reference for all analog signals.", 13 AIN (in) "Analog Input.", 14 VREF (in) "Voltage Reference Input, 2.5 V Nominal. This determines the value of positive full scale in the Unipolar mode and of both positive and negative full scale in Bipolar mode.", 15 ~{SLEEP} (in) "Sleep Mode Pin. When this pin is taken low, the AD7701 goes into a low power mode with typically 10 uW power consumption.", 16 BP/~{UP} (in) "Bipolar/Unipolar Mode Pin. When this pin is low, the AD7701 is configured for a unipolar input range going from AGND to VREF. When Pin 12 is high, the AD7701 is configured for a bipolar input range, +/-VREF.", 17 CAL (in) "Calibration Mode Pin. When CAL is taken high for more than four cycles, the AD7701 is reset and performs a calibration cycle when CAL is brought low again. The CAL pin can also be used as a strobe to synchronize the (See Datasheet)", 18 NC "No Connect.", 19 AVDD (power) "Analog Positive Supply, +5 V Nominal.", 20 DVDD (power) "Digital Positive Supply, +5 V Nominal.", 21 NC "No Connect.", 22 NC "No Connect.", 23 NC "No Connect.", 24 ~{CS} (in) "Chip Select Input. When C\S\ is brought low, the AD7701 will begin to transmit serial data in a format determined by the state of the MODE pin.", 25 SC2 (in) "System Calibration Pins. The state of these pins, when CAL is taken high, determines the type of calibration performed.", 26 ~{DRDY} (out) "Data Ready Output. D\R\D\Y\ is low when valid data is available in the output register. It goes high after transmission of a word is completed. It also goes high for four clock cycles when a new data-word is being loaded (See Datasheet)", 27 SCLK (io) "Serial Clock Input/Output. The SCLK pin is configured as an input or output, dependent on the type of serial data transmission that has been selected by the MODE pin. When configured as an output in the Synchronous (See Datasheet)", 28 SDATA (hiz) "Serial Data Output. The AD7701’s output data is available at this pin as a 16-bit serial word. The transmission format is determined by the state of the MODE pin."

## AD7701ARS-REEL
designator U?
Single 16-Bit Analog-to-Digital Converter with Serial Interface, LC2MOS, 4KSPS, -40 to +85 degC, RS-28, Reel; Part Number: AD7701; Manufacturer: Analog Devices; Resolution (Bits): 16; Channels: 1; Throughput Rate (SPS): 4K; Interface: Ser; DatasheetVersion: Rev.E; PackageVersion: 060106-A; PackageReference: RS-28; PackageDescription: 28-Lead Shrink Small Outline Package [SSOP]; RoHS: N; Packing: Reel; Mounting Technology: Surface Mount; Code_JEDEC: MO-150-AH; ComponentLink1Description: Manufacturer URL; ComponentLink1URL: http://www.analog.com/en/index.html; ComponentLink2Description: Datasheet; ComponentLink2URL: http://www.analog.com/static/imported-files/data_sheets/AD7701.pdf; ComponentLink3Description: Package Specification; ComponentLink3URL: http://www.analog.com/static/imported-files/packages/32122249223724RS_28.pdf; ComponentLink4Description: Product URL; ComponentLink4URL: http://www.analog.com/en/analog-to-digital-converters/ad-converters/ad7701/products/product.html
footprint RS-28_N (SOP, 28-Leads, Body 10.2x5.3mm, Pitch 0.65mm, IPC Medium Density)
footprint RS-28_L (SOP, 28-Leads, Body 10.2x5.3mm, Pitch 0.65mm, IPC High Density)
footprint RS-28_M (SOP, 28-Leads, Body 10.2x5.3mm, Pitch 0.65mm, IPC Low Density)
pins: 1 MODE (in) "Selects the Serial Interface Mode. If MODE is tied to -5 V, the AD7701 will operate in the Asynchronous Communications (AC) mode. The SCLK pin is configured as an input, and data is transmitted in two bytes, each with one (See Datasheet)", 2 CLKOUT (out) "Clock Output to Generate an Internal Master Clock by Connecting a Crystal between CLKOUT and CLKIN. If an external clock is used, CLKOUT is not connected.", 3 CLKIN (in) "Clock Input for External Clock.", 4 SC1 (in) "System Calibration Pins. The state of these pins, when CAL is taken high, determines the type of calibration performed.", 5 DGND (power) "Digital Ground. Ground reference for all digital signals.", 6 NC "No Connect.", 7 NC "No Connect.", 8 DVSS (power) "Digital Negative Supply, -5 V Nominal.", 9 NC "No Connect.", 10 AVSS (power) "Analog Negative Supply, -5 V Nominal.", 11 NC "No Connect.", 12 AGND (power) "Analog Ground. Ground reference for all analog signals.", 13 AIN (in) "Analog Input.", 14 VREF (in) "Voltage Reference Input, 2.5 V Nominal. This determines the value of positive full scale in the Unipolar mode and of both positive and negative full scale in Bipolar mode.", 15 ~{SLEEP} (in) "Sleep Mode Pin. When this pin is taken low, the AD7701 goes into a low power mode with typically 10 uW power consumption.", 16 BP/~{UP} (in) "Bipolar/Unipolar Mode Pin. When this pin is low, the AD7701 is configured for a unipolar input range going from AGND to VREF. When Pin 12 is high, the AD7701 is configured for a bipolar input range, +/-VREF.", 17 CAL (in) "Calibration Mode Pin. When CAL is taken high for more than four cycles, the AD7701 is reset and performs a calibration cycle when CAL is brought low again. The CAL pin can also be used as a strobe to synchronize the (See Datasheet)", 18 NC "No Connect.", 19 AVDD (power) "Analog Positive Supply, +5 V Nominal.", 20 DVDD (power) "Digital Positive Supply, +5 V Nominal.", 21 NC "No Connect.", 22 NC "No Connect.", 23 NC "No Connect.", 24 ~{CS} (in) "Chip Select Input. When C\S\ is brought low, the AD7701 will begin to transmit serial data in a format determined by the state of the MODE pin.", 25 SC2 (in) "System Calibration Pins. The state of these pins, when CAL is taken high, determines the type of calibration performed.", 26 ~{DRDY} (out) "Data Ready Output. D\R\D\Y\ is low when valid data is available in the output register. It goes high after transmission of a word is completed. It also goes high for four clock cycles when a new data-word is being loaded (See Datasheet)", 27 SCLK (io) "Serial Clock Input/Output. The SCLK pin is configured as an input or output, dependent on the type of serial data transmission that has been selected by the MODE pin. When configured as an output in the Synchronous (See Datasheet)", 28 SDATA (hiz) "Serial Data Output. The AD7701’s output data is available at this pin as a 16-bit serial word. The transmission format is determined by the state of the MODE pin."

## AD7701ARSZ
designator U?
Single 16-Bit Analog-to-Digital Converter with Serial Interface, LC2MOS, 4KSPS, 0 to +70 degC, RS-28, Pb-Free, Tube; Part Number: AD7701; Manufacturer: Analog Devices; Resolution (Bits): 16; Channels: 1; Throughput Rate (SPS): 4K; Interface: Ser; DatasheetVersion: Rev.E; PackageVersion: 060106-A; PackageReference: RS-28; PackageDescription: 28-Lead Shrink Small Outline Package [SSOP]; RoHS: Y; Packing: Tube; Mounting Technology: Surface Mount; Code_JEDEC: MO-150-AH; ComponentLink1Description: Manufacturer URL; ComponentLink1URL: http://www.analog.com/en/index.html; ComponentLink2Description: Datasheet; ComponentLink2URL: http://www.analog.com/static/imported-files/data_sheets/AD7701.pdf; ComponentLink3Description: Package Specification; ComponentLink3URL: http://www.analog.com/static/imported-files/packages/32122249223724RS_28.pdf; ComponentLink4Description: Product URL; ComponentLink4URL: http://www.analog.com/en/analog-to-digital-converters/ad-converters/ad7701/products/product.html
footprint RS-28_N (SOP, 28-Leads, Body 10.2x5.3mm, Pitch 0.65mm, IPC Medium Density)
footprint RS-28_L (SOP, 28-Leads, Body 10.2x5.3mm, Pitch 0.65mm, IPC High Density)
footprint RS-28_M (SOP, 28-Leads, Body 10.2x5.3mm, Pitch 0.65mm, IPC Low Density)
pins: 1 MODE (in) "Selects the Serial Interface Mode. If MODE is tied to -5 V, the AD7701 will operate in the Asynchronous Communications (AC) mode. The SCLK pin is configured as an input, and data is transmitted in two bytes, each with one (See Datasheet)", 2 CLKOUT (out) "Clock Output to Generate an Internal Master Clock by Connecting a Crystal between CLKOUT and CLKIN. If an external clock is used, CLKOUT is not connected.", 3 CLKIN (in) "Clock Input for External Clock.", 4 SC1 (in) "System Calibration Pins. The state of these pins, when CAL is taken high, determines the type of calibration performed.", 5 DGND (power) "Digital Ground. Ground reference for all digital signals.", 6 NC "No Connect.", 7 NC "No Connect.", 8 DVSS (power) "Digital Negative Supply, -5 V Nominal.", 9 NC "No Connect.", 10 AVSS (power) "Analog Negative Supply, -5 V Nominal.", 11 NC "No Connect.", 12 AGND (power) "Analog Ground. Ground reference for all analog signals.", 13 AIN (in) "Analog Input.", 14 VREF (in) "Voltage Reference Input, 2.5 V Nominal. This determines the value of positive full scale in the Unipolar mode and of both positive and negative full scale in Bipolar mode.", 15 ~{SLEEP} (in) "Sleep Mode Pin. When this pin is taken low, the AD7701 goes into a low power mode with typically 10 uW power consumption.", 16 BP/~{UP} (in) "Bipolar/Unipolar Mode Pin. When this pin is low, the AD7701 is configured for a unipolar input range going from AGND to VREF. When Pin 12 is high, the AD7701 is configured for a bipolar input range, +/-VREF.", 17 CAL (in) "Calibration Mode Pin. When CAL is taken high for more than four cycles, the AD7701 is reset and performs a calibration cycle when CAL is brought low again. The CAL pin can also be used as a strobe to synchronize the (See Datasheet)", 18 NC "No Connect.", 19 AVDD (power) "Analog Positive Supply, +5 V Nominal.", 20 DVDD (power) "Digital Positive Supply, +5 V Nominal.", 21 NC "No Connect.", 22 NC "No Connect.", 23 NC "No Connect.", 24 ~{CS} (in) "Chip Select Input. When C\S\ is brought low, the AD7701 will begin to transmit serial data in a format determined by the state of the MODE pin.", 25 SC2 (in) "System Calibration Pins. The state of these pins, when CAL is taken high, determines the type of calibration performed.", 26 ~{DRDY} (out) "Data Ready Output. D\R\D\Y\ is low when valid data is available in the output register. It goes high after transmission of a word is completed. It also goes high for four clock cycles when a new data-word is being loaded (See Datasheet)", 27 SCLK (io) "Serial Clock Input/Output. The SCLK pin is configured as an input or output, dependent on the type of serial data transmission that has been selected by the MODE pin. When configured as an output in the Synchronous (See Datasheet)", 28 SDATA (hiz) "Serial Data Output. The AD7701’s output data is available at this pin as a 16-bit serial word. The transmission format is determined by the state of the MODE pin."